# Altium footprint library 晶振封装库.PcbLib: 82 footprints (part 3 of 6)
Each footprint in its own frame and in the unit in brackets; x right, y up, seen from the top. Pads: shape width x height; smd on the part's side, far side on the other; paste and mask are expansions set on the pad; w line width, h text height; cw(c..) or ccw(c..) is an arc to the next point about the centre after c.
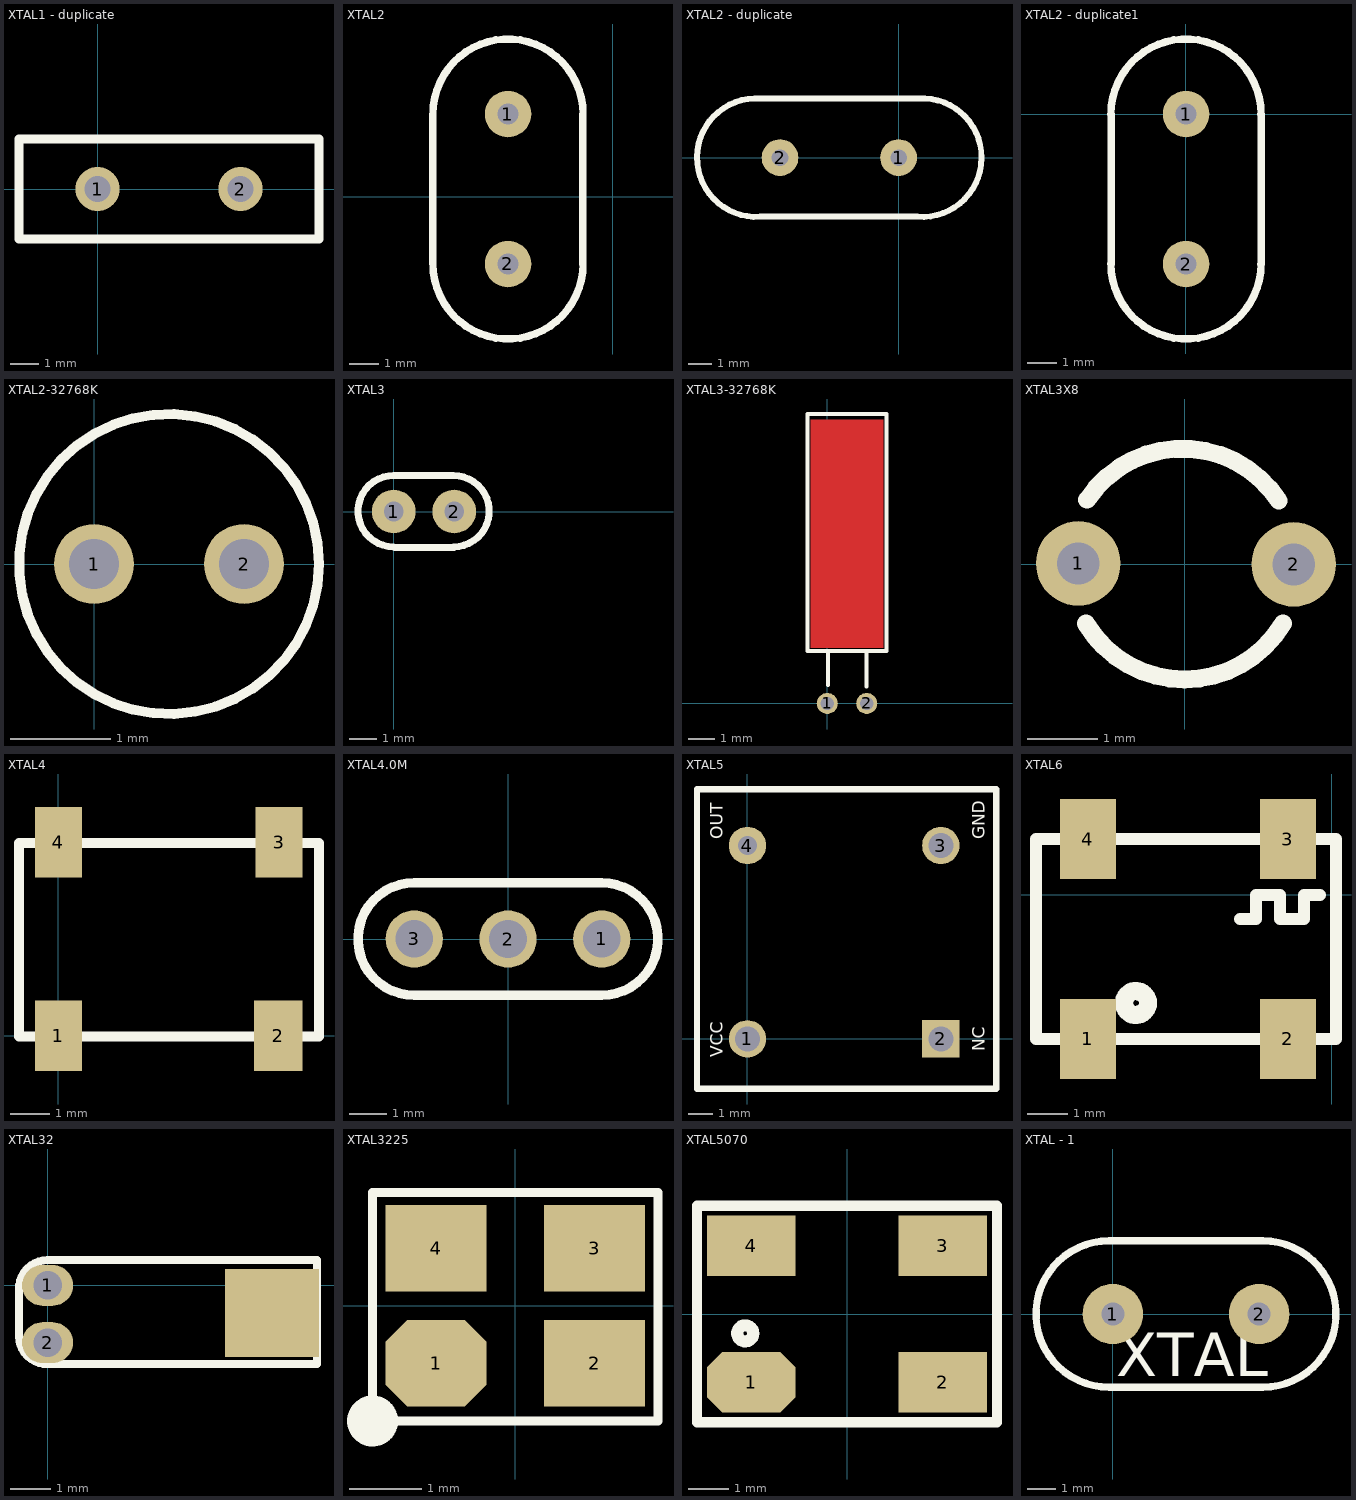
[diagram p2: the footprints below, top view; thin cyan lines are the x and y axes]

## XTAL1 - duplicate [mil]
pads (2):
  round 62 hole 36: 1(0,0) 2(200,0)
Top Overlay:
  lines w12: -110,-70 310,-70 310,70 -110,70 -110,-70

## XTAL2 [mil]
pads (2):
  round 62 hole 28: 1(-140,110) 2(-140,-90)
Top Overlay:
  lines w10: -240,-90 ccw(c-140,-90) -40,-90 -40,110 ccw(c-140,110) -240,110 -240,-90

## XTAL2 - duplicate [mil]
pads (2):
  round 62 hole 28: 1(0,0) 2(-200,0)
Top Overlay:
  lines w10: -232.03,99.68 ccw(c-240,0) -233.56,-99.79 -233.45,-99.68 32.02,-99.68 ; 32.03,-99.68 ccw(c40,0) 33.56,99.79 -231.91,99.79 ; -231.91,99.79 -232.03,99.68 -231.91,99.79

## XTAL2 - duplicate1 [mil]
pads (2):
  round 62 hole 28: 1(0,0) 2(0,-200)
Top Overlay:
  lines w10: -100,-200 ccw(c0,-200) 100,-200 100,0 ccw(c0,0) -100,0 -100,-200

## XTAL2-32768K [mm]
pads (2):
  round 0.8 hole 0.5: 1(0,0) 2(1.5,0)
Top Overlay:
  circle w0.1: c0.75,0 r1.5

## XTAL3 [mil]
pads (2):
  round 62 hole 28: 1(0,0) 2(85.85,0)
Top Overlay:
  lines w10: 84.96,-50.11 ccw(c84.96,0.49) 84.96,51.1 -0.15,51.1 ccw(c-0.15,0.55) -0.15,-50 0.85,-51 85.85,-51

## XTAL3-32768K [mm]
pads (2):
  round 0.8 hole 0.5: 1(0,0) 2(1.5,0)
Top Layer:
  rectangle: -0.632,2.109 2.144,10.8
Top Overlay:
  lines w0.15: -0.75,11 2.25,11
  lines w0.152: -0.75,11 -0.75,2 2.25,2 2.25,11 ; 0.021,0.703 0.021,1.986 ; 1.484,0.653 1.484,2
Top Solder:
  rectangle: -0.633,2.105 2.147,10.8

## XTAL3X8 [mm]
pads (2):
  round 1.2 hole 0.6: 1(-1.509,0.013) 2(1.55,0)
Top Overlay:
  lines w0.254: -1.4,-0.841 ccw(c-0.002,-0.002) 1.398,-0.839 ; -1.386,0.917 cw(c-0.029,0.013) 1.337,0.903
3D body "User Library-Crystal TH_.STEP": height 9.28, standoff -1.5, extent -1.707,-1.586 1.743,1.614

## XTAL4 [mil]
pads (4):
  rect 47.24x70 smd: 1(0,0) 3(220,193) 4(0,193)
  rect 48.42x70 smd: 2(219,0)
Top Overlay:
  lines w10: -39.37,-0.81 -39.37,192.1 259.84,192.1 259.84,-0.81 -39.37,-0.81

## XTAL4.0M [mil]
pads (3):
  round 60 hole 39.37: 1(98.28,0.04) 2(-0.15,0.04) 3(-98.57,0.04)
Top Overlay:
  lines w10: -98.58,-59.02 cw(c-98.58,0.04) -98.58,59.09 98.28,59.09 cw(c98.28,0.04) 98.28,-59.02 -98.58,-59.02

## XTAL5 [mil]
pads (4):
  round 60 hole 40: 1(0,0) 3(310,310)
  rect 60x60 hole 40: 2(310.08,0.1)
  round 60 hole 30: 4(0,310)
Top Overlay:
  lines w10: -80.94,-79.9 -80.94,400.1 399.06,400.1 399.06,-79.9 -80.94,-79.9
  text "NC" at 380.08,-19.9 h20
  text "GND" at 380.08,320.1 h20
  text "OUT" at -39.92,320.1 h20
  text "VCC" at -39.92,-29.9 h20

## XTAL6 [mm]
pads (4):
  rect 1.4x2 smd: 1(-6.096,-3.603) 2(-1.096,-3.603) 3(-1.096,1.397) 4(-6.096,1.397)
Top Overlay:
  circle w0.254: c-4.896,-2.703 r0.2
  circle w0.254: c-4.896,-2.703 r0.4
  lines w0.305: -2.296,-0.603 -1.896,-0.603 -1.896,-0.003 -1.296,-0.003 -1.296,-0.603 -0.796,-0.603 -0.696,-0.603 -0.696,-0.003 -0.296,-0.003 ; -7.396,-3.603 0.104,-3.603 0.104,1.397 -7.396,1.397 -7.396,-3.603
Multi-Layer:
  text "Comment" at -7.548,2.6 h0.64

## XTAL32 [mil]
pads (3):
  oval 50x40 hole 28: 1(0,0) 2(0,-56)
  rect 92.13x86 smd: ""(220,-27)
Top Overlay:
  lines w8: -28,-50 ccw(c-0.5,-49.5) 0,-77 264,-77 264,25 0,25 ccw(c0.5,-3.5) -28,-4 -28,-50

## XTAL3225 [mm]
pads (4):
  oct 1.4x1.2 smd: 1(-1.1,-0.8)
  rect 1.4x1.2 smd: 2(1.1,-0.8) 3(1.1,0.8) 4(-1.1,0.8)
Top Overlay:
  circle w0.3: c-1.981,-1.6 r0.203
  lines w0.127: -1.981,-1.6 -1.981,1.575 1.981,1.575 1.981,-1.6 -1.981,-1.6

## XTAL5070 [mm]
pads (4):
  oct 2.2x1.5 smd: 1(-2.388,-1.702)
  rect 2.2x1.5 smd: 2(2.388,-1.702) 3(2.388,1.702) 4(-2.388,1.702)
Top Overlay:
  circle w0.3: c-2.537,-0.483 r0.2
  lines w0.254: -3.74,-2.7 3.74,-2.7 3.74,2.7 -3.74,2.7 -3.74,-2.7

## XTAL - 1 [mm]
height 2.5
pads (2):
  round 2.1 hole 0.8: 1(0,0) 2(5.08,0)
Top Overlay:
  lines w0.254: -0.127,-2.54 cw(c-0.127,0) -0.127,2.54 5.207,2.54 cw(c5.207,0) 5.207,-2.54 -0.127,-2.54
  text "XTAL" at 0.127,-2.159 h1.52